# Altium schematic symbol library GL850G.SchLib: 1 symbol
Pins are listed as number, name and electrical type; pins without a type are passive.

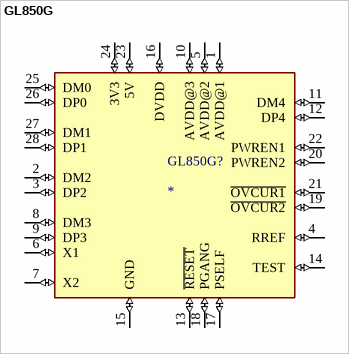
[diagram p0: symbol GL850G]

## GL850G
designator GL850G?
Programmable Logic IC Development Tools; MF: Olimex Ltd.; MP: GL850G; SnapEDA_Link: https://www.snapeda.com/parts/GL850G/Olimex+LTD/view-part/?ref=snap; Package: None; Value: *; Check_prices: https://www.snapeda.com/parts/GL850G/Olimex+LTD/view-part/?ref=eda
footprint 28SSOP
pins: 1 AVDD@1 (io), 2 DM2 (io), 3 DP2 (io), 4 RREF (io), 5 AVDD@2 (io), 6 X1 (io), 7 X2 (io), 8 DM3 (io), 9 DP3 (io), 10 AVDD@3 (io), 11 DM4 (io), 12 DP4 (io), 13 ~{RESET} (io), 14 TEST (io), 15 GND (io), 16 DVDD (io), 17 PSELF (io), 18 PGANG (io), 19 ~{OVCUR2} (io), 20 PWREN2 (io), 21 ~{OVCUR1} (io), 22 PWREN1 (io), 23 5V (io), 24 3V3 (io), 25 DM0 (io), 26 DP0 (io), 27 DM1 (io), 28 DP1 (io)